# EAGLE library part PIC16F688 (library adp150)
14-Pin Flash-Based, 8-Bit CMOS Microcontrollers with nanoWatt Technology Source: http://ww1.microchip.com/downloads/en/DeviceDoc/41203E.pdf
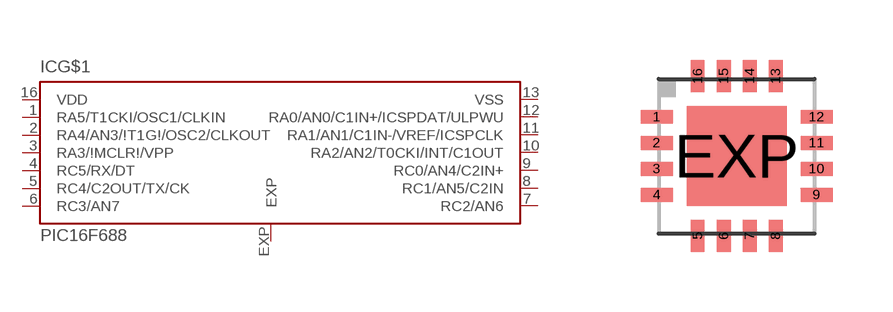
[diagram p131: symbol with the pads of QFN16-4X4; footprint QFN16-4X4]

Designator prefix IC; gates G$1=PIC16F688 EXP=EXPOSED

## PIC16F688  [QFN16-4X4]
1  G$1:RA5/T1CKI/OSC1/CLKIN  in
2  G$1:RA4/AN3/\!T1G\!/OSC2/CLKOUT
3  G$1:RA3/\!MCLR\!/VPP
4  G$1:RC5/RX/DT
5  G$1:RC4/C2OUT/TX/CK
6  G$1:RC3/AN7
7  G$1:RC2/AN6
8  G$1:RC1/AN5/C2IN
9  G$1:RC0/AN4/C2IN+
10  G$1:RA2/AN2/T0CKI/INT/C1OUT
11  G$1:RA1/AN1/C1IN-/VREF/ICSPCLK
12  G$1:RA0/AN0/C1IN+/ICSPDAT/ULPWU
13  G$1:VSS  pwr
16  G$1:VDD  pwr
EXP  EXP:EXP  pas

## Footprint QFN16-4X4 (pad centres in mm)
16-Lead Plastic Quad Flat, No Lead Package (ML) - 4x4x0.9mm Body [QFN] Source: http://ww1.microchip.com/downloads/en/DeviceDoc/41203E.pdf
smd 0.8 x 0.35: 1 -2,0.975; 2 -2,0.325; 3 -2,-0.325; 4 -2,-0.975; 9 2,-0.975; 10 2,-0.325; 11 2,0.325; 12 2,0.975
smd 0.35 x 0.8: 5 -0.975,-2; 6 -0.325,-2; 7 0.325,-2; 8 0.975,-2; 13 0.975,2; 14 0.325,2; 15 -0.325,2; 16 -0.975,2
smd 2.5 x 2.5: EXP 0,0